# Altium schematic symbol library CAP 0201.SchLib: 4 symbols
Pins are listed as number, name and electrical type; pins without a type are passive.

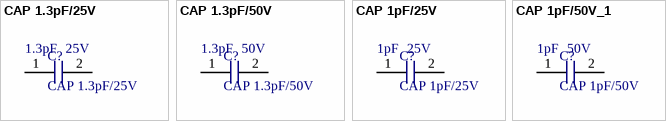
[diagram p0: symbols CAP 1.3pF/25V to CAP 1pF/50V_1]

## CAP 1.3pF/25V
designator C?  Voltage: 25V  Capacitance: 1.3pF
1.3pF ±0.25pF 25V Ceramic Capacitor C0G, NP0 0201 (0603 Metric); Manufacturer 1: Murata Electronics North America; Manufacturer 1 PN: GJM0335C1E1R3CB01D; Digi-Key PN: 490-3056-1-ND; ComponentLink1Description: Datasheet; ComponentLink1URL: https://media.digikey.com/pdf/Data%20Sheets/Knowles%20Novacap/0201BN1R0C500YT_Spec.pdf
footprint CAPC0603X03N (Chip Capacitor, 2-Leads, Body 0,60x0,30mm, IPC Medium Density)
pins: 1, 2

## CAP 1.3pF/50V
designator C?  Voltage: 50V  Capacitance: 1.3pF
1.3pF ±0.25pF 50V Ceramic Capacitor C0G, NP0 0201 (0603 Metric); Manufacturer 1: Taiyo Yuden; Manufacturer 1 PN: UMK063CG1R3CTHF; Digi-Key PN: 587-5307-2-ND; ComponentLink1Description: Datasheet; ComponentLink1URL: https://media.digikey.com/pdf/Data%20Sheets/Knowles%20Novacap/0201BN1R0C500YT_Spec.pdf
footprint CAPC0603X03N (Chip Capacitor, 2-Leads, Body 0,60x0,30mm, IPC Medium Density)
pins: 1, 2

## CAP 1pF/25V
designator C?  Voltage: 25V  Capacitance: 1pF
1pF ±0.1pF 25V Ceramic Capacitor C0G, NP0 0201 (0603 Metric); Manufacturer 1: Murata Electronics North America; Manufacturer 1 PN: GRM0335C1E1R0BA01D; ComponentLink1Description: Datasheet; ComponentLink1URL: https://search.murata.co.jp/Ceramy/image/img/A01X/G101/ENG/GRM0335C1E1R0BA01-01.pdf; Digi-Key PN: 490-11284-1-ND
footprint CAPC0603X03N (Chip Capacitor, 2-Leads, Body 0,60x0,30mm, IPC Medium Density)
pins: 1, 2

## CAP 1pF/50V_1
designator C?, comment CAP 1pF/50V  Voltage: 50V  Capacitance: 1pF
1pF ±0.25pF 50V Ceramic Capacitor C0G, NP0 0201 (0603 Metric); Manufacturer 1: Knowles Novacap; Manufacturer 1 PN: 0201BN1R0C500YT; Digi-Key PN: 1763-1176-6-ND; ComponentLink1Description: Datasheet; ComponentLink1URL: https://media.digikey.com/pdf/Data%20Sheets/Knowles%20Novacap/0201BN1R0C500YT_Spec.pdf
footprint CAPC0603X03N (Chip Capacitor, 2-Leads, Body 0,60x0,30mm, IPC Medium Density)
pins: 1, 2